# Altium schematic symbol library MicroUSB.Schlib: 1 symbol
Pins are listed as number, name and electrical type; pins without a type are passive.

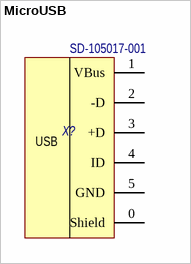
[diagram p0: symbol MicroUSB]

## MicroUSB
designator X?, comment Наименование: SD-105017-001  (hidden comment: mico-BF)
MicroUSB bottom mount receptacle, B-type; Потребление, Вт: 0; Назначение: MicroUSB bottom mount receptacle, B-type; DataSheet: *
footprint USB Micro-BF
footprint MicroUSB-Molex-105017
footprint MicroUSB-Molex-105133
pins: 0 Shield, 1 VBus, 2 -D, 3 +D, 4 ID, 5 GND
text: USB